# Altium schematic symbol library 4_Pin_Molex_Connector.SchLib: 1 symbol
Pins are listed as number, name and electrical type; pins without a type are passive.

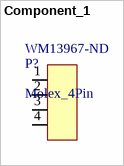
[diagram p0: symbol Component_1]

## Component_1
designator P?, comment Molex_4Pin  Supplier Part Number 1: WM13967-ND
Supplier 1: Digi-Key
footprint MUX_SEL_CON
pins: 1, 2, 3, 4